# Altium footprint library Diode.PcbLib: 2 footprints
Each footprint in its own frame and in the unit in brackets; x right, y up, seen from the top. Pads: shape width x height; smd on the part's side, far side on the other; paste and mask are expansions set on the pad; w line width, h text height; cw(c..) or ccw(c..) is an arc to the next point about the centre after c.
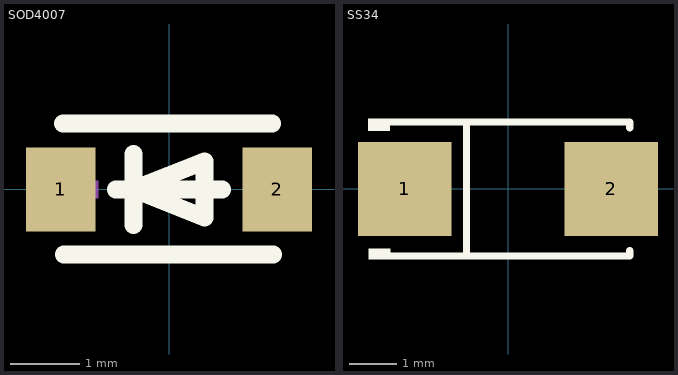
[diagram p0: the footprints below, top view; thin cyan lines are the x and y axes]

## SOD4007 [mm]
pads (2):
  rect 1x1.2 smd paste+0 mask+0.051: 1(-1.55,0) 2(1.55,0)
Top Overlay:
  lines w0.254: -1.52,0.947 1.48,0.947 ; -1.507,-0.933 1.493,-0.933 ; -0.762,0 0.762,0 ; -0.508,-0.508 -0.508,0.508 ; -0.508,0 0.508,-0.406 0.508,0.406 -0.508,0
Mechanical 15:
  region: -1.905,0.127 -1.016,0.127 -1.016,-0.127 -1.905,-0.127
  region: 1.471,-0.436 1.471,0.453 1.725,0.453 1.725,-0.436
  region: 1.143,0.127 2.032,0.127 2.032,-0.127 1.143,-0.127
3D body "SOD-123F.step": height 1.02, standoff 0, extent -1.9,-0.9 1.9,0.9

## SS34 [mm]
pads (2):
  rect 2x2 smd paste+0 mask+0.051: 1(-2.2,0) 2(2.2,0)
Top Overlay:
  region: -2.512,-1.27 -2.513,-1.503 -2.973,-1.498 -2.971,-1.27
  region: -2.52,1.502 -2.521,1.243 -2.98,1.247 -2.977,1.502
  lines w0.152: -2.596,-1.426 2.596,-1.426 2.596,-1.315 ; -2.596,1.426 2.596,1.426 2.596,1.301 ; -0.884,-1.426 -0.884,1.426
Mechanical 15:
  region: 2.014,-0.675 2.014,0.675 1.811,0.675 1.811,-0.675
  region: 2.29,-0.09 2.29,0.112 1.48,0.112 1.48,-0.09
  region: -2.317,-0.101 -2.317,0.101 -1.507,0.101 -1.507,-0.101
3D body "SS34A.STEP": height 2.63, standoff 0, extent -2.646,-1.29 2.494,1.27